# EAGLE library part AK500/6-H (library con-ptr500)
CONNECTOR Aug. 2004 / PTR Meßtechnik: Die Bezeichnung der Serie AK505 wurde geändert. Es handelt sich hierbei um AK500 in horizontaler Ausführung.
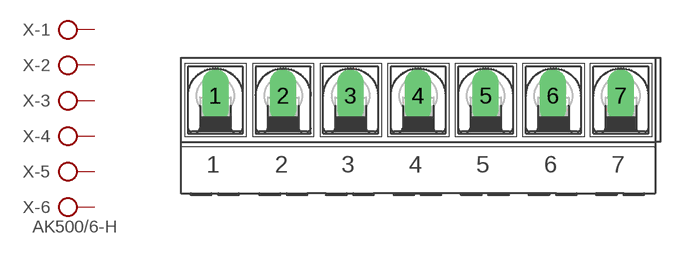
[diagram p14: symbol with the pads of AK500/7-H; footprint AK500/7-H]

Designator prefix X; gates -1=KL -2=KL -3=KL -4=KL -5=KL -6=KLV

## AK500/6-H (OC_FARNELL: unknown; OC_NEWARK: unknown)  [AK500/7-H]
1  -1:KL  pas
2  -2:KL  pas
3  -3:KL  pas
4  -4:KL  pas
5  -5:KL  pas
6  -6:KL  pas

## Footprint AK500/7-H (pad centres in mm)
CONNECTOR Aug. 2004 / PTR Meßtechnik: Die Bezeichnung der Serie AK505 wurde geändert. Es handelt sich hierbei um AK500 in horizontaler Ausführung.
drill 1.321 long: 1 -15.037,0; 2 -10.008,0; 3 -5.004,0; 4 0,0; 5 5.004,0; 6 10.008,0; 7 15.037,0